# Altium integrated library Analog Devices Interface and Isolation Digital Isolators.IntLib: 645 symbols (part 33 of 36)
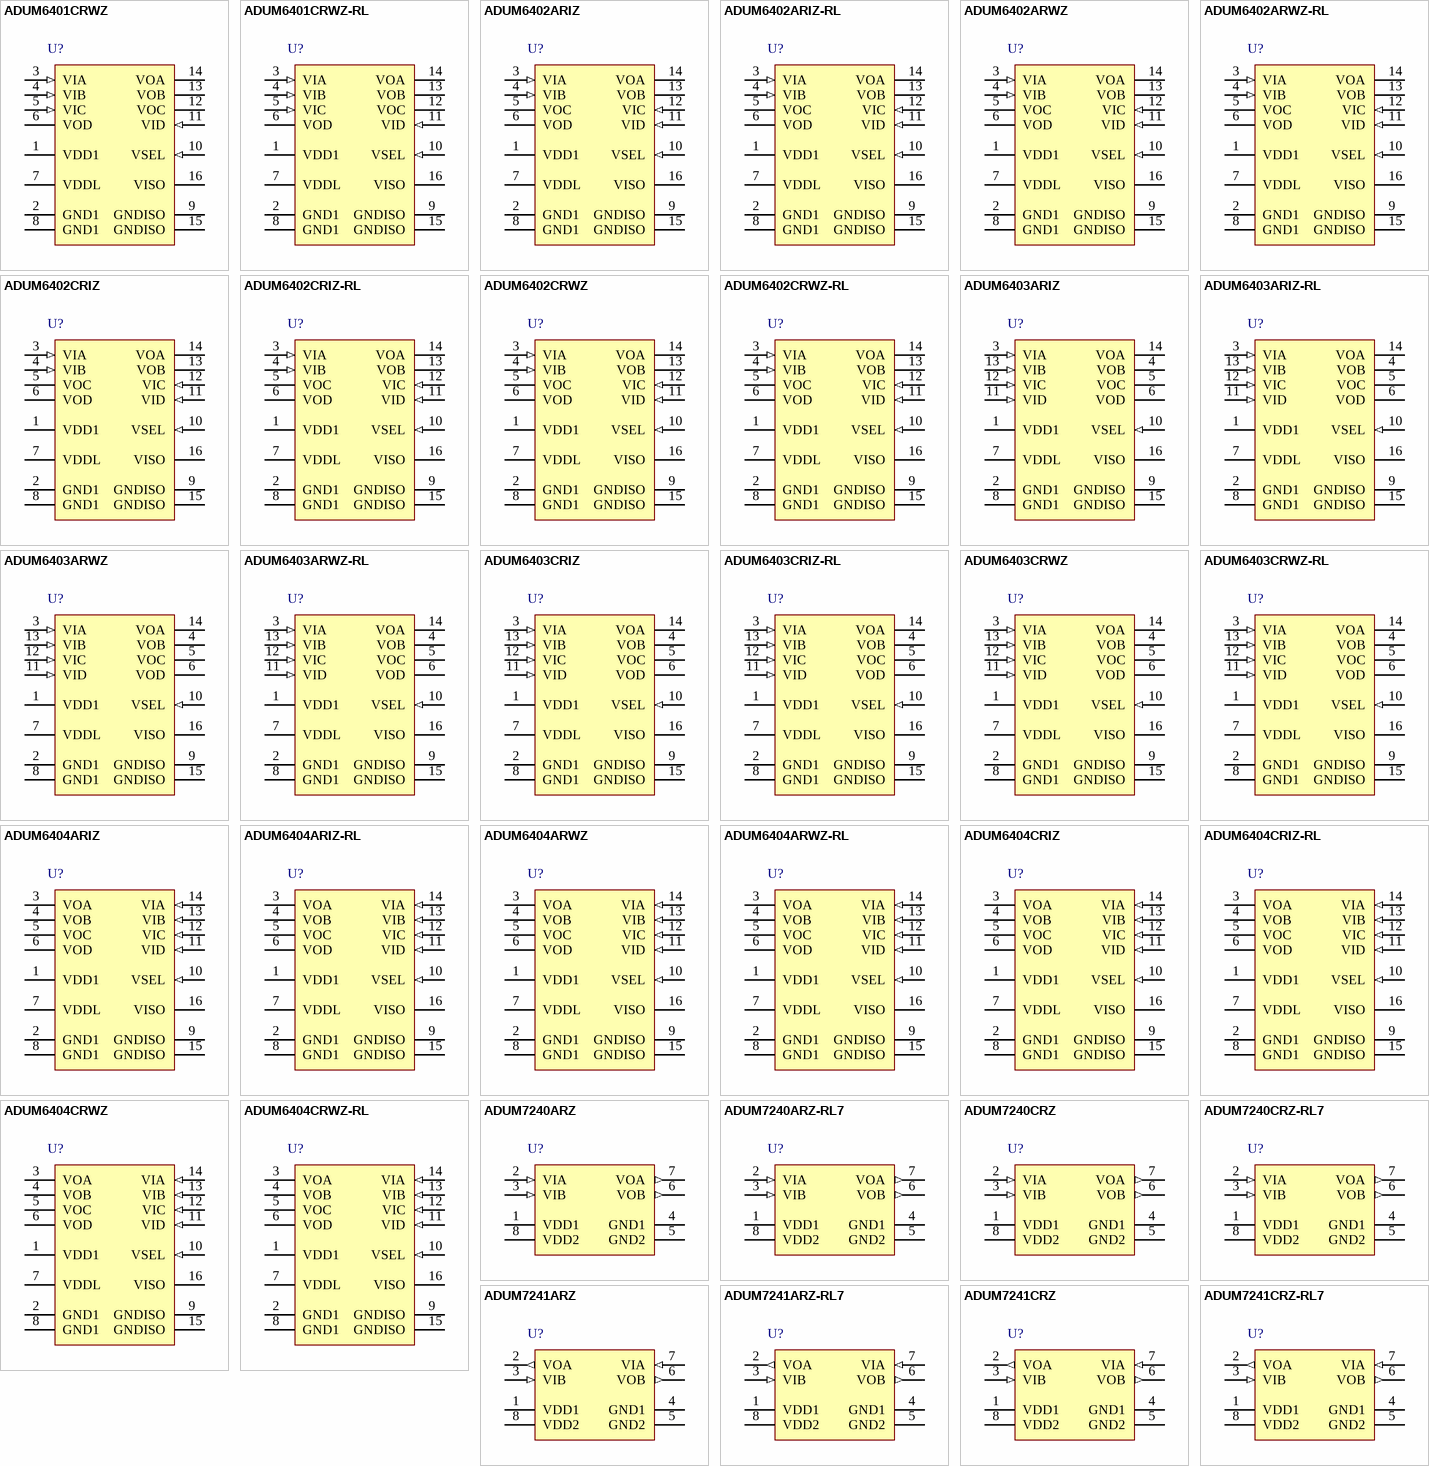
[diagram p52: symbols ADUM6401CRWZ to ADUM7241CRZ-RL7]

## ADUM6402CRWZ-RL
designator U?
Quad Channel Isolator with Integrated DC / DC Converter, 5 KV rms Insulation Rating, 25 Mbps Data Rate, 60 ns Delay, Industrial, 16-pin SOIC (RW-16), Reel; Manufacturer: Analog Devices; PartNumber: ADUM6402CRWZ-RL; Insulation Rating (kVrms): 5; Max Data Rate: 25Mbps; Prop Delay: 60ns; DatasheetVersion: Rev. A; PackageVersion: 032707-B, 03/2007; PackageReference: RW-16; PackageDescription: 16-Pin Standard Small Outline Package, Body 10.3 x 7.5 mm, Pitch 1.27 mm; Supplier 1: Digi-Key; Supplier Part Number 1: ADUM6402CRWZ-RL-ND; Max Operating Temp (degreesC): 105; Mounting Technology: Surface Mount; Code_JEDEC: MS-013-AA; ComponentLink1Description: Manufacturer URL; ComponentLink1URL: http://www.analog.com/en/index.html; ComponentLink2Description: Datasheet; ComponentLink2URL: http://www.analog.com/static/imported-files/data_sheets/ADuM6400_6401_6402_6403_6404.pdf; ComponentLink3Description: Package Specification; ComponentLink3URL: http://www.analog.com/static/imported-files/packages/PKG_PDF/SOIC_WIDE%20%28RW%29/RW_16.pdf
footprint ADI-RW-16_N (SOIC, 16-Leads, Body 10.3x7.5mm, Pitch 1.27mm, IPC Medium Density)
footprint ADI-RW-16_L (SOIC, 16-Leads, Body 10.3x7.5mm, Pitch 1.27mm, IPC High Density)
footprint ADI-RW-16_M (SOIC, 16-Leads, Body 10.3x7.5mm, Pitch 1.27mm, IPC Low Density)
pins: 1 VDD1 (power) "Primary Supply Voltage, 3.0 V to 5.5 V. Pin 1 and Pin 7 must be connected to the same external voltage source.", 2 GND1 (power) "Ground Reference for the Primary Side of the Isolator. Pin 2 and Pin 8 are internally connected to each other, and it is recommended that both pins be connected to a common ground.", 3 VIA (in) "Logic Input A.", 4 VIB (in) "Logic Input B.", 5 VOC (hiz) "Logic Output C.", 6 VOD (hiz) "Logic Output D.", 7 VDDL (power) "Data Channel Supply Voltage, 3.0 V to 5.5 V. Pin 1 and Pin 7 must be connected to the same external voltage source.", 8 GND1 (power) "Ground Reference for the Primary Side of the Isolator. Pin 2 and Pin 8 are internally connected to each other, and it is recommended that both pins be connected to a common ground.", 9 GNDISO (power) "Ground Reference for the Secondary Side of the Isolator. Pin 9 and Pin 15 are internally connected to each other, and it is recommended that both pins be connected to a common ground.", 10 VSEL (in) "Output Voltage Selection. When VSEL = VISO, the VISO setpoint is 5.0 V. When VSEL = GNDISO, the VISO setpoint is 3.3 V.", 11 VID (in) "Logic Input D.", 12 VIC (in) "Logic Input C.", 13 VOB (hiz) "Logic Output B.", 14 VOA (hiz) "Logic Output A.", 15 GNDISO (power) "Ground Reference for the Secondary Side of the Isolator. Pin 9 and Pin 15 are internally connected to each other, and it is recommended that both pins be connected to a common ground.", 16 VISO (power) "Secondary Supply Voltage Output for External Loads: 3.3 V (VSEL = GNDISO) or 5.0 V (VSEL = VISO)."

## ADUM6403ARIZ
designator U?
Quad Channel Isolator with Integrated DC / DC Converter, 5 KV rms Insulation Rating, 1 Mbps Data Rate, 100 ns Delay, Industrial, 16-pin SOIC (RI-16-1), Tube; Manufacturer: Analog Devices; PartNumber: ADUM6403ARIZ; Insulation Rating (kVrms): 5; Max Data Rate: 1Mbps; Prop Delay: 100ns; DatasheetVersion: Rev. A; PackageVersion: 10-12-2010-A, 02/2012; PackageReference: RI-16-1; PackageDescription: 16-Pin Standard Small Outline Package, with Increased Creepage, Body 12.8 x 7.5 mm, Pitch 1.27 mm; Supplier 1: Digi-Key; Supplier Part Number 1: ADUM6403ARIZ-ND; Max Operating Temp (degreesC): 105; Mounting Technology: Surface Mount; Code_JEDEC: MS-013-AC; ComponentLink1Description: Manufacturer URL; ComponentLink1URL: http://www.analog.com/en/index.html; ComponentLink2Description: Datasheet; ComponentLink2URL: http://www.analog.com/static/imported-files/data_sheets/ADuM6400_6401_6402_6403_6404.pdf; ComponentLink3Description: Package Specification; ComponentLink3URL: http://www.analog.com/static/imported-files/data_sheets/ADuM2400_2401_2402.pdf
footprint ADI-RI-16-1_N (SOIC, 16-Leads, Body 12.8x7.5mm, Pitch 1.27mm, IPC Medium Density)
footprint ADI-RI-16-1_L (SOIC, 16-Leads, Body 12.8x7.5mm, Pitch 1.27mm, IPC High Density)
footprint ADI-RI-16-1_M (SOIC, 16-Leads, Body 12.8x7.5mm, Pitch 1.27mm, IPC Low Density)
pins: 1 VDD1 (power) "Primary Supply Voltage, 3.0 V to 5.5 V. Pin 1 and Pin 7 must be connected to the same external voltage source.", 2 GND1 (power) "Ground Reference for the Primary Side of the Isolator. Pin 2 and Pin 8 are internally connected to each other, and it is recommed that both pins be connected to a common ground.", 3 VIA (in) "Logic Input A.", 4 VOB (hiz) "Logic Output B.", 5 VOC (hiz) "Logic Output C.", 6 VOD (hiz) "Logic Output D", 7 VDDL (power) "Data Channel Supply Voltage, 3.0 V to 5.5 V. Pin 1 and Pin 7 must be connected to the same external voltage source", 8 GND1 (power) "Ground Reference for the Primary Side of the Isolator. Pin 2 and Pin 8 are internally connected to each other, and it is recommed that both pins be connected to a common ground.", 9 GNDISO (power) "Ground Reference for the Secondary Side of the Isolator. Pin 9 and Pin 15 are internally connected to each other,  and it is recommended that both pins be connected to a common ground.", 10 VSEL (in) "Output Voltage Selection. When VSEL = VISO, the VISO setpoint is 5.0 V. When VSEL = GNDISO, the VISO setpoint is 3.3 V", 11 VID (in) "Logic Input D.", 12 VIC (in) "Logic Input C.", 13 VIB (in) "Logic Input B.", 14 VOA (hiz) "Logic Output A.", 15 GNDISO (power) "Ground Reference for the Secondary Side of the Isolator. Pin 9 and Pin 15 are internally connected to each other,  and it is recommended that both pins be connected to a common ground.", 16 VISO (power) "Secondary Supply Voltage Output for External Loads: 3.3 V (VSEL = GNDISO) or 5.0 V (VSEL = VISO)."

## ADUM6403ARIZ-RL
designator U?
Quad Channel Isolator with Integrated DC / DC Converter, 5 KV rms Insulation Rating, 1 Mbps Data Rate, 100 ns Delay, Industrial, 16-pin SOIC (RI-16-1), Reel; Manufacturer: Analog Devices; PartNumber: ADUM6403ARIZ-RL; Insulation Rating (kVrms): 5; Max Data Rate: 1Mbps; Prop Delay: 100ns; DatasheetVersion: Rev. A; PackageVersion: 10-12-2010-A, 02/2012; PackageReference: RI-16-1; PackageDescription: 16-Pin Standard Small Outline Package, with Increased Creepage, Body 12.8 x 7.5 mm, Pitch 1.27 mm; Supplier 1: Digi-Key; Supplier Part Number 1: ADUM6403ARIZ-RL-ND; Max Operating Temp (degreesC): 105; Mounting Technology: Surface Mount; Code_JEDEC: MS-013-AC; ComponentLink1Description: Manufacturer URL; ComponentLink1URL: http://www.analog.com/en/index.html; ComponentLink2Description: Datasheet; ComponentLink2URL: http://www.analog.com/static/imported-files/data_sheets/ADuM6400_6401_6402_6403_6404.pdf; ComponentLink3Description: Package Specification; ComponentLink3URL: http://www.analog.com/static/imported-files/data_sheets/ADuM2400_2401_2402.pdf
footprint ADI-RI-16-1_N (SOIC, 16-Leads, Body 12.8x7.5mm, Pitch 1.27mm, IPC Medium Density)
footprint ADI-RI-16-1_L (SOIC, 16-Leads, Body 12.8x7.5mm, Pitch 1.27mm, IPC High Density)
footprint ADI-RI-16-1_M (SOIC, 16-Leads, Body 12.8x7.5mm, Pitch 1.27mm, IPC Low Density)
pins: 1 VDD1 (power) "Primary Supply Voltage, 3.0 V to 5.5 V. Pin 1 and Pin 7 must be connected to the same external voltage source.", 2 GND1 (power) "Ground Reference for the Primary Side of the Isolator. Pin 2 and Pin 8 are internally connected to each other, and it is recommed that both pins be connected to a common ground.", 3 VIA (in) "Logic Input A.", 4 VOB (hiz) "Logic Output B.", 5 VOC (hiz) "Logic Output C.", 6 VOD (hiz) "Logic Output D", 7 VDDL (power) "Data Channel Supply Voltage, 3.0 V to 5.5 V. Pin 1 and Pin 7 must be connected to the same external voltage source", 8 GND1 (power) "Ground Reference for the Primary Side of the Isolator. Pin 2 and Pin 8 are internally connected to each other, and it is recommed that both pins be connected to a common ground.", 9 GNDISO (power) "Ground Reference for the Secondary Side of the Isolator. Pin 9 and Pin 15 are internally connected to each other,  and it is recommended that both pins be connected to a common ground.", 10 VSEL (in) "Output Voltage Selection. When VSEL = VISO, the VISO setpoint is 5.0 V. When VSEL = GNDISO, the VISO setpoint is 3.3 V", 11 VID (in) "Logic Input D.", 12 VIC (in) "Logic Input C.", 13 VIB (in) "Logic Input B.", 14 VOA (hiz) "Logic Output A.", 15 GNDISO (power) "Ground Reference for the Secondary Side of the Isolator. Pin 9 and Pin 15 are internally connected to each other,  and it is recommended that both pins be connected to a common ground.", 16 VISO (power) "Secondary Supply Voltage Output for External Loads: 3.3 V (VSEL = GNDISO) or 5.0 V (VSEL = VISO)."

## ADUM6403ARWZ
designator U?
Quad Channel Isolator with Integrated DC / DC Converter, 5 KV rms Insulation Rating, 1 Mbps Data Rate, 100 ns Delay, Industrial, 16-pin SOIC (RW-16), Tube; Manufacturer: Analog Devices; PartNumber: ADUM6403ARWZ; Insulation Rating (kVrms): 5; Max Data Rate: 1Mbps; Prop Delay: 100ns; DatasheetVersion: Rev. A; PackageVersion: 032707-B, 03/2007; PackageReference: RW-16; PackageDescription: 16-Pin Standard Small Outline Package, Body 10.3 x 7.5 mm, Pitch 1.27 mm; Supplier 1: Digi-Key; Supplier Part Number 1: ADUM6403ARWZ-ND; Max Operating Temp (degreesC): 105; Mounting Technology: Surface Mount; Code_JEDEC: MS-013-AA; ComponentLink1Description: Manufacturer URL; ComponentLink1URL: http://www.analog.com/en/index.html; ComponentLink2Description: Datasheet; ComponentLink2URL: http://www.analog.com/static/imported-files/data_sheets/ADuM6400_6401_6402_6403_6404.pdf; ComponentLink3Description: Package Specification; ComponentLink3URL: http://www.analog.com/static/imported-files/packages/PKG_PDF/SOIC_WIDE%20%28RW%29/RW_16.pdf
footprint ADI-RW-16_N (SOIC, 16-Leads, Body 10.3x7.5mm, Pitch 1.27mm, IPC Medium Density)
footprint ADI-RW-16_L (SOIC, 16-Leads, Body 10.3x7.5mm, Pitch 1.27mm, IPC High Density)
footprint ADI-RW-16_M (SOIC, 16-Leads, Body 10.3x7.5mm, Pitch 1.27mm, IPC Low Density)
pins: 1 VDD1 (power) "Primary Supply Voltage, 3.0 V to 5.5 V. Pin 1 and Pin 7 must be connected to the same external voltage source.", 2 GND1 (power) "Ground Reference for the Primary Side of the Isolator. Pin 2 and Pin 8 are internally connected to each other, and it is recommed that both pins be connected to a common ground.", 3 VIA (in) "Logic Input A.", 4 VOB (hiz) "Logic Output B.", 5 VOC (hiz) "Logic Output C.", 6 VOD (hiz) "Logic Output D", 7 VDDL (power) "Data Channel Supply Voltage, 3.0 V to 5.5 V. Pin 1 and Pin 7 must be connected to the same external voltage source", 8 GND1 (power) "Ground Reference for the Primary Side of the Isolator. Pin 2 and Pin 8 are internally connected to each other, and it is recommed that both pins be connected to a common ground.", 9 GNDISO (power) "Ground Reference for the Secondary Side of the Isolator. Pin 9 and Pin 15 are internally connected to each other,  and it is recommended that both pins be connected to a common ground.", 10 VSEL (in) "Output Voltage Selection. When VSEL = VISO, the VISO setpoint is 5.0 V. When VSEL = GNDISO, the VISO setpoint is 3.3 V", 11 VID (in) "Logic Input D.", 12 VIC (in) "Logic Input C.", 13 VIB (in) "Logic Input B.", 14 VOA (hiz) "Logic Output A.", 15 GNDISO (power) "Ground Reference for the Secondary Side of the Isolator. Pin 9 and Pin 15 are internally connected to each other,  and it is recommended that both pins be connected to a common ground.", 16 VISO (power) "Secondary Supply Voltage Output for External Loads: 3.3 V (VSEL = GNDISO) or 5.0 V (VSEL = VISO)."

## ADUM6403ARWZ-RL
designator U?
Quad Channel Isolator with Integrated DC / DC Converter, 5 KV rms Insulation Rating, 1 Mbps Data Rate, 100 ns Delay, Industrial, 16-pin SOIC (RW-16), Reel; Manufacturer: Analog Devices; PartNumber: ADUM6403ARWZ-RL; Insulation Rating (kVrms): 5; Max Data Rate: 1Mbps; Prop Delay: 100ns; DatasheetVersion: Rev. A; PackageVersion: 032707-B, 03/2007; PackageReference: RW-16; PackageDescription: 16-Pin Standard Small Outline Package, Body 10.3 x 7.5 mm, Pitch 1.27 mm; Supplier 1: Digi-Key; Supplier Part Number 1: ADUM6403ARWZ-RLTR-ND; Max Operating Temp (degreesC): 105; Mounting Technology: Surface Mount; Code_JEDEC: MS-013-AA; ComponentLink1Description: Manufacturer URL; ComponentLink1URL: http://www.analog.com/en/index.html; ComponentLink2Description: Datasheet; ComponentLink2URL: http://www.analog.com/static/imported-files/data_sheets/ADuM6400_6401_6402_6403_6404.pdf; ComponentLink3Description: Package Specification; ComponentLink3URL: http://www.analog.com/static/imported-files/packages/PKG_PDF/SOIC_WIDE%20%28RW%29/RW_16.pdf
footprint ADI-RW-16_N (SOIC, 16-Leads, Body 10.3x7.5mm, Pitch 1.27mm, IPC Medium Density)
footprint ADI-RW-16_L (SOIC, 16-Leads, Body 10.3x7.5mm, Pitch 1.27mm, IPC High Density)
footprint ADI-RW-16_M (SOIC, 16-Leads, Body 10.3x7.5mm, Pitch 1.27mm, IPC Low Density)
pins: 1 VDD1 (power) "Primary Supply Voltage, 3.0 V to 5.5 V. Pin 1 and Pin 7 must be connected to the same external voltage source.", 2 GND1 (power) "Ground Reference for the Primary Side of the Isolator. Pin 2 and Pin 8 are internally connected to each other, and it is recommed that both pins be connected to a common ground.", 3 VIA (in) "Logic Input A.", 4 VOB (hiz) "Logic Output B.", 5 VOC (hiz) "Logic Output C.", 6 VOD (hiz) "Logic Output D", 7 VDDL (power) "Data Channel Supply Voltage, 3.0 V to 5.5 V. Pin 1 and Pin 7 must be connected to the same external voltage source", 8 GND1 (power) "Ground Reference for the Primary Side of the Isolator. Pin 2 and Pin 8 are internally connected to each other, and it is recommed that both pins be connected to a common ground.", 9 GNDISO (power) "Ground Reference for the Secondary Side of the Isolator. Pin 9 and Pin 15 are internally connected to each other,  and it is recommended that both pins be connected to a common ground.", 10 VSEL (in) "Output Voltage Selection. When VSEL = VISO, the VISO setpoint is 5.0 V. When VSEL = GNDISO, the VISO setpoint is 3.3 V", 11 VID (in) "Logic Input D.", 12 VIC (in) "Logic Input C.", 13 VIB (in) "Logic Input B.", 14 VOA (hiz) "Logic Output A.", 15 GNDISO (power) "Ground Reference for the Secondary Side of the Isolator. Pin 9 and Pin 15 are internally connected to each other,  and it is recommended that both pins be connected to a common ground.", 16 VISO (power) "Secondary Supply Voltage Output for External Loads: 3.3 V (VSEL = GNDISO) or 5.0 V (VSEL = VISO)."

## ADUM6403CRIZ
designator U?
Quad Channel Isolator with Integrated DC / DC Converter, 5 KV rms Insulation Rating, 25 Mbps Data Rate, 60 ns Delay, Industrial, 16-pin SOIC (RI-16-1), Tube; Manufacturer: Analog Devices; PartNumber: ADUM6403CRIZ; Insulation Rating (kVrms): 5; Max Data Rate: 25Mbps; Prop Delay: 60ns; DatasheetVersion: Rev. A; PackageVersion: 10-12-2010-A, 02/2012; PackageReference: RI-16-1; PackageDescription: 16-Pin Standard Small Outline Package, with Increased Creepage, Body 12.8 x 7.5 mm, Pitch 1.27 mm; Supplier 1: Digi-Key; Supplier Part Number 1: ADUM6403CRIZ-ND; Max Operating Temp (degreesC): 105; Mounting Technology: Surface Mount; Code_JEDEC: MS-013-AC; ComponentLink1Description: Manufacturer URL; ComponentLink1URL: http://www.analog.com/en/index.html; ComponentLink2Description: Datasheet; ComponentLink2URL: http://www.analog.com/static/imported-files/data_sheets/ADuM6400_6401_6402_6403_6404.pdf; ComponentLink3Description: Package Specification; ComponentLink3URL: http://www.analog.com/static/imported-files/data_sheets/ADuM2400_2401_2402.pdf
footprint ADI-RI-16-1_N (SOIC, 16-Leads, Body 12.8x7.5mm, Pitch 1.27mm, IPC Medium Density)
footprint ADI-RI-16-1_L (SOIC, 16-Leads, Body 12.8x7.5mm, Pitch 1.27mm, IPC High Density)
footprint ADI-RI-16-1_M (SOIC, 16-Leads, Body 12.8x7.5mm, Pitch 1.27mm, IPC Low Density)
pins: 1 VDD1 (power) "Primary Supply Voltage, 3.0 V to 5.5 V. Pin 1 and Pin 7 must be connected to the same external voltage source.", 2 GND1 (power) "Ground Reference for the Primary Side of the Isolator. Pin 2 and Pin 8 are internally connected to each other, and it is recommed that both pins be connected to a common ground.", 3 VIA (in) "Logic Input A.", 4 VOB (hiz) "Logic Output B.", 5 VOC (hiz) "Logic Output C.", 6 VOD (hiz) "Logic Output D", 7 VDDL (power) "Data Channel Supply Voltage, 3.0 V to 5.5 V. Pin 1 and Pin 7 must be connected to the same external voltage source", 8 GND1 (power) "Ground Reference for the Primary Side of the Isolator. Pin 2 and Pin 8 are internally connected to each other, and it is recommed that both pins be connected to a common ground.", 9 GNDISO (power) "Ground Reference for the Secondary Side of the Isolator. Pin 9 and Pin 15 are internally connected to each other,  and it is recommended that both pins be connected to a common ground.", 10 VSEL (in) "Output Voltage Selection. When VSEL = VISO, the VISO setpoint is 5.0 V. When VSEL = GNDISO, the VISO setpoint is 3.3 V", 11 VID (in) "Logic Input D.", 12 VIC (in) "Logic Input C.", 13 VIB (in) "Logic Input B.", 14 VOA (hiz) "Logic Output A.", 15 GNDISO (power) "Ground Reference for the Secondary Side of the Isolator. Pin 9 and Pin 15 are internally connected to each other,  and it is recommended that both pins be connected to a common ground.", 16 VISO (power) "Secondary Supply Voltage Output for External Loads: 3.3 V (VSEL = GNDISO) or 5.0 V (VSEL = VISO)."

## ADUM6403CRIZ-RL
designator U?
Quad Channel Isolator with Integrated DC / DC Converter, 5 KV rms Insulation Rating, 25 Mbps Data Rate, 60 ns Delay, Industrial, 16-pin SOIC (RI-16-1), Reel; Manufacturer: Analog Devices; PartNumber: ADUM6403CRIZ-RL; Insulation Rating (kVrms): 5; Max Data Rate: 25Mbps; Prop Delay: 60ns; DatasheetVersion: Rev. A; PackageVersion: 10-12-2010-A, 02/2012; PackageReference: RI-16-1; PackageDescription: 16-Pin Standard Small Outline Package, with Increased Creepage, Body 12.8 x 7.5 mm, Pitch 1.27 mm; Supplier 1: Digi-Key; Supplier Part Number 1: ADUM6403CRIZ-RL-ND; Max Operating Temp (degreesC): 105; Mounting Technology: Surface Mount; Code_JEDEC: MS-013-AC; ComponentLink1Description: Manufacturer URL; ComponentLink1URL: http://www.analog.com/en/index.html; ComponentLink2Description: Datasheet; ComponentLink2URL: http://www.analog.com/static/imported-files/data_sheets/ADuM6400_6401_6402_6403_6404.pdf; ComponentLink3Description: Package Specification; ComponentLink3URL: http://www.analog.com/static/imported-files/data_sheets/ADuM2400_2401_2402.pdf
footprint ADI-RI-16-1_N (SOIC, 16-Leads, Body 12.8x7.5mm, Pitch 1.27mm, IPC Medium Density)
footprint ADI-RI-16-1_L (SOIC, 16-Leads, Body 12.8x7.5mm, Pitch 1.27mm, IPC High Density)
footprint ADI-RI-16-1_M (SOIC, 16-Leads, Body 12.8x7.5mm, Pitch 1.27mm, IPC Low Density)
pins: 1 VDD1 (power) "Primary Supply Voltage, 3.0 V to 5.5 V. Pin 1 and Pin 7 must be connected to the same external voltage source.", 2 GND1 (power) "Ground Reference for the Primary Side of the Isolator. Pin 2 and Pin 8 are internally connected to each other, and it is recommed that both pins be connected to a common ground.", 3 VIA (in) "Logic Input A.", 4 VOB (hiz) "Logic Output B.", 5 VOC (hiz) "Logic Output C.", 6 VOD (hiz) "Logic Output D", 7 VDDL (power) "Data Channel Supply Voltage, 3.0 V to 5.5 V. Pin 1 and Pin 7 must be connected to the same external voltage source", 8 GND1 (power) "Ground Reference for the Primary Side of the Isolator. Pin 2 and Pin 8 are internally connected to each other, and it is recommed that both pins be connected to a common ground.", 9 GNDISO (power) "Ground Reference for the Secondary Side of the Isolator. Pin 9 and Pin 15 are internally connected to each other,  and it is recommended that both pins be connected to a common ground.", 10 VSEL (in) "Output Voltage Selection. When VSEL = VISO, the VISO setpoint is 5.0 V. When VSEL = GNDISO, the VISO setpoint is 3.3 V", 11 VID (in) "Logic Input D.", 12 VIC (in) "Logic Input C.", 13 VIB (in) "Logic Input B.", 14 VOA (hiz) "Logic Output A.", 15 GNDISO (power) "Ground Reference for the Secondary Side of the Isolator. Pin 9 and Pin 15 are internally connected to each other,  and it is recommended that both pins be connected to a common ground.", 16 VISO (power) "Secondary Supply Voltage Output for External Loads: 3.3 V (VSEL = GNDISO) or 5.0 V (VSEL = VISO)."

## ADUM6403CRWZ
designator U?
Quad Channel Isolator with Integrated DC / DC Converter, 5 KV rms Insulation Rating, 25 Mbps Data Rate, 60 ns Delay, Industrial, 16-pin SOIC (RW-16), Tube; Manufacturer: Analog Devices; PartNumber: ADUM6403CRWZ; Insulation Rating (kVrms): 5; Max Data Rate: 25Mbps; Prop Delay: 60ns; DatasheetVersion: Rev. A; PackageVersion: 032707-B, 03/2007; PackageReference: RW-16; PackageDescription: 16-Pin Standard Small Outline Package, Body 10.3 x 7.5 mm, Pitch 1.27 mm; Supplier 1: Digi-Key; Supplier Part Number 1: ADUM6403CRWZ-ND; Max Operating Temp (degreesC): 105; Mounting Technology: Surface Mount; Code_JEDEC: MS-013-AA; ComponentLink1Description: Manufacturer URL; ComponentLink1URL: http://www.analog.com/en/index.html; ComponentLink2Description: Datasheet; ComponentLink2URL: http://www.analog.com/static/imported-files/data_sheets/ADuM6400_6401_6402_6403_6404.pdf; ComponentLink3Description: Package Specification; ComponentLink3URL: http://www.analog.com/static/imported-files/packages/PKG_PDF/SOIC_WIDE%20%28RW%29/RW_16.pdf
footprint ADI-RW-16_N (SOIC, 16-Leads, Body 10.3x7.5mm, Pitch 1.27mm, IPC Medium Density)
footprint ADI-RW-16_L (SOIC, 16-Leads, Body 10.3x7.5mm, Pitch 1.27mm, IPC High Density)
footprint ADI-RW-16_M (SOIC, 16-Leads, Body 10.3x7.5mm, Pitch 1.27mm, IPC Low Density)
pins: 1 VDD1 (power) "Primary Supply Voltage, 3.0 V to 5.5 V. Pin 1 and Pin 7 must be connected to the same external voltage source.", 2 GND1 (power) "Ground Reference for the Primary Side of the Isolator. Pin 2 and Pin 8 are internally connected to each other, and it is recommed that both pins be connected to a common ground.", 3 VIA (in) "Logic Input A.", 4 VOB (hiz) "Logic Output B.", 5 VOC (hiz) "Logic Output C.", 6 VOD (hiz) "Logic Output D", 7 VDDL (power) "Data Channel Supply Voltage, 3.0 V to 5.5 V. Pin 1 and Pin 7 must be connected to the same external voltage source", 8 GND1 (power) "Ground Reference for the Primary Side of the Isolator. Pin 2 and Pin 8 are internally connected to each other, and it is recommed that both pins be connected to a common ground.", 9 GNDISO (power) "Ground Reference for the Secondary Side of the Isolator. Pin 9 and Pin 15 are internally connected to each other,  and it is recommended that both pins be connected to a common ground.", 10 VSEL (in) "Output Voltage Selection. When VSEL = VISO, the VISO setpoint is 5.0 V. When VSEL = GNDISO, the VISO setpoint is 3.3 V", 11 VID (in) "Logic Input D.", 12 VIC (in) "Logic Input C.", 13 VIB (in) "Logic Input B.", 14 VOA (hiz) "Logic Output A.", 15 GNDISO (power) "Ground Reference for the Secondary Side of the Isolator. Pin 9 and Pin 15 are internally connected to each other,  and it is recommended that both pins be connected to a common ground.", 16 VISO (power) "Secondary Supply Voltage Output for External Loads: 3.3 V (VSEL = GNDISO) or 5.0 V (VSEL = VISO)."

## ADUM6403CRWZ-RL
designator U?
Quad Channel Isolator with Integrated DC / DC Converter, 5 KV rms Insulation Rating, 25 Mbps Data Rate, 60 ns Delay, Industrial, 16-pin SOIC (RW-16), Reel; Manufacturer: Analog Devices; PartNumber: ADUM6403CRWZ-RL; Insulation Rating (kVrms): 5; Max Data Rate: 25Mbps; Prop Delay: 60ns; DatasheetVersion: Rev. A; PackageVersion: 032707-B, 03/2007; PackageReference: RW-16; PackageDescription: 16-Pin Standard Small Outline Package, Body 10.3 x 7.5 mm, Pitch 1.27 mm; Supplier 1: Digi-Key; Supplier Part Number 1: ADUM6403CRWZ-RL-ND; Max Operating Temp (degreesC): 105; Mounting Technology: Surface Mount; Code_JEDEC: MS-013-AA; ComponentLink1Description: Manufacturer URL; ComponentLink1URL: http://www.analog.com/en/index.html; ComponentLink2Description: Datasheet; ComponentLink2URL: http://www.analog.com/static/imported-files/data_sheets/ADuM6400_6401_6402_6403_6404.pdf; ComponentLink3Description: Package Specification; ComponentLink3URL: http://www.analog.com/static/imported-files/packages/PKG_PDF/SOIC_WIDE%20%28RW%29/RW_16.pdf
footprint ADI-RW-16_N (SOIC, 16-Leads, Body 10.3x7.5mm, Pitch 1.27mm, IPC Medium Density)
footprint ADI-RW-16_L (SOIC, 16-Leads, Body 10.3x7.5mm, Pitch 1.27mm, IPC High Density)
footprint ADI-RW-16_M (SOIC, 16-Leads, Body 10.3x7.5mm, Pitch 1.27mm, IPC Low Density)
pins: 1 VDD1 (power) "Primary Supply Voltage, 3.0 V to 5.5 V. Pin 1 and Pin 7 must be connected to the same external voltage source.", 2 GND1 (power) "Ground Reference for the Primary Side of the Isolator. Pin 2 and Pin 8 are internally connected to each other, and it is recommed that both pins be connected to a common ground.", 3 VIA (in) "Logic Input A.", 4 VOB (hiz) "Logic Output B.", 5 VOC (hiz) "Logic Output C.", 6 VOD (hiz) "Logic Output D", 7 VDDL (power) "Data Channel Supply Voltage, 3.0 V to 5.5 V. Pin 1 and Pin 7 must be connected to the same external voltage source", 8 GND1 (power) "Ground Reference for the Primary Side of the Isolator. Pin 2 and Pin 8 are internally connected to each other, and it is recommed that both pins be connected to a common ground.", 9 GNDISO (power) "Ground Reference for the Secondary Side of the Isolator. Pin 9 and Pin 15 are internally connected to each other,  and it is recommended that both pins be connected to a common ground.", 10 VSEL (in) "Output Voltage Selection. When VSEL = VISO, the VISO setpoint is 5.0 V. When VSEL = GNDISO, the VISO setpoint is 3.3 V", 11 VID (in) "Logic Input D.", 12 VIC (in) "Logic Input C.", 13 VIB (in) "Logic Input B.", 14 VOA (hiz) "Logic Output A.", 15 GNDISO (power) "Ground Reference for the Secondary Side of the Isolator. Pin 9 and Pin 15 are internally connected to each other,  and it is recommended that both pins be connected to a common ground.", 16 VISO (power) "Secondary Supply Voltage Output for External Loads: 3.3 V (VSEL = GNDISO) or 5.0 V (VSEL = VISO)."

## ADUM6404ARIZ
designator U?
Quad Channel Isolator with Integrated DC / DC Converter, 5 KV rms Insulation Rating, 1 Mbps Data Rate, 100 ns Delay, Industrial, 16-pin SOIC (RI-16-1), Tube; Manufacturer: Analog Devices; PartNumber: ADUM6404ARIZ; Insulation Rating (kVrms): 5; Max Data Rate: 1Mbps; Prop Delay: 100ns; DatasheetVersion: Rev. A; PackageVersion: 10-12-2010-A, 02/2012; PackageReference: RI-16-1; PackageDescription: 16-Pin Standard Small Outline Package, with Increased Creepage, Body 12.8 x 7.5 mm, Pitch 1.27 mm; Supplier 1: Digi-Key; Supplier Part Number 1: ADUM6404ARIZ-ND; Max Operating Temp (degreesC): 105; Mounting Technology: Surface Mount; Code_JEDEC: MS-013-AC; ComponentLink1Description: Manufacturer URL; ComponentLink1URL: http://www.analog.com/en/index.html; ComponentLink2Description: Datasheet; ComponentLink2URL: http://www.analog.com/static/imported-files/data_sheets/ADuM6400_6401_6402_6403_6404.pdf; ComponentLink3Description: Package Specification; ComponentLink3URL: http://www.analog.com/static/imported-files/data_sheets/ADuM2400_2401_2402.pdf
footprint ADI-RI-16-1_N (SOIC, 16-Leads, Body 12.8x7.5mm, Pitch 1.27mm, IPC Medium Density)
footprint ADI-RI-16-1_L (SOIC, 16-Leads, Body 12.8x7.5mm, Pitch 1.27mm, IPC High Density)
footprint ADI-RI-16-1_M (SOIC, 16-Leads, Body 12.8x7.5mm, Pitch 1.27mm, IPC Low Density)
pins: 1 VDD1 (power) "Primary Supply Voltage, 3.0 V to 5.5 V. Pin 1 and Pin 7 must be connected to the same external voltage source.", 2 GND1 (power) "Ground Reference for the Primary Side of the Isolator. Pin 2 and Pin 8 are internally connected to each other, and it is recommended that both pins be connected to a common ground.", 3 VOA (hiz) "Logic Output A.", 4 VOB (hiz) "Logic Output B.", 5 VOC (hiz) "Logic Output C.", 6 VOD (hiz) "Logic Output D.", 7 VDDL (power) "Data Channel Supply Voltage, 3.0 V to 5.5 V. Pin 1 and Pin 7 must be connected to the same external voltage source.", 8 GND1 (power) "Ground Reference for the Primary Side of the Isolator. Pin 2 and Pin 8 are internally connected to each other, and it is recommended that both pins be connected to a common ground.", 9 GNDISO (power) "Ground Reference for the Secondary Side of the Isolator. Pin 9 and Pin 15 are internally connected to each other, and it is recommended that both pins be connected to a common ground.", 10 VSEL (in) "Output Voltage Selection. When VSEL = VISO, the VISO setpoint is 5.0 V. When VSEL = GNDISO, the VISO setpoint is 3.3 V.", 11 VID (in) "Logic Input D.", 12 VIC (in) "Logic Input C.", 13 VIB (in) "Logic Input B.", 14 VIA (in) "Logic Input A.", 15 GNDISO (power) "Ground Reference for the Secondary Side of the Isolator. Pin 9 and Pin 15 are internally connected to each other, and it is recommended that both pins be connected to a common ground.", 16 VISO (power) "Secondary Supply Voltage Output for External Loads: 3.3 V (VSEL = GNDISO) or 5.0 V (VSEL = VISO)."

## ADUM6404ARIZ-RL
designator U?
Quad Channel Isolator with Integrated DC / DC Converter, 5 KV rms Insulation Rating, 1 Mbps Data Rate, 100 ns Delay, Industrial, 16-pin SOIC (RI-16-1), Reel; Manufacturer: Analog Devices; PartNumber: ADUM6404ARIZ-RL; Insulation Rating (kVrms): 5; Max Data Rate: 1Mbps; Prop Delay: 100ns; DatasheetVersion: Rev. A; PackageVersion: 10-12-2010-A, 02/2012; PackageReference: RI-16-1; PackageDescription: 16-Pin Standard Small Outline Package, with Increased Creepage, Body 12.8 x 7.5 mm, Pitch 1.27 mm; Supplier 1: Digi-Key; Supplier Part Number 1: ADUM6404ARIZ-RL-ND; Max Operating Temp (degreesC): 105; Mounting Technology: Surface Mount; Code_JEDEC: MS-013-AC; ComponentLink1Description: Manufacturer URL; ComponentLink1URL: http://www.analog.com/en/index.html; ComponentLink2Description: Datasheet; ComponentLink2URL: http://www.analog.com/static/imported-files/data_sheets/ADuM6400_6401_6402_6403_6404.pdf; ComponentLink3Description: Package Specification; ComponentLink3URL: http://www.analog.com/static/imported-files/data_sheets/ADuM2400_2401_2402.pdf
footprint ADI-RI-16-1_N (SOIC, 16-Leads, Body 12.8x7.5mm, Pitch 1.27mm, IPC Medium Density)
footprint ADI-RI-16-1_L (SOIC, 16-Leads, Body 12.8x7.5mm, Pitch 1.27mm, IPC High Density)
footprint ADI-RI-16-1_M (SOIC, 16-Leads, Body 12.8x7.5mm, Pitch 1.27mm, IPC Low Density)
pins: 1 VDD1 (power) "Primary Supply Voltage, 3.0 V to 5.5 V. Pin 1 and Pin 7 must be connected to the same external voltage source.", 2 GND1 (power) "Ground Reference for the Primary Side of the Isolator. Pin 2 and Pin 8 are internally connected to each other, and it is recommended that both pins be connected to a common ground.", 3 VOA (hiz) "Logic Output A.", 4 VOB (hiz) "Logic Output B.", 5 VOC (hiz) "Logic Output C.", 6 VOD (hiz) "Logic Output D.", 7 VDDL (power) "Data Channel Supply Voltage, 3.0 V to 5.5 V. Pin 1 and Pin 7 must be connected to the same external voltage source.", 8 GND1 (power) "Ground Reference for the Primary Side of the Isolator. Pin 2 and Pin 8 are internally connected to each other, and it is recommended that both pins be connected to a common ground.", 9 GNDISO (power) "Ground Reference for the Secondary Side of the Isolator. Pin 9 and Pin 15 are internally connected to each other, and it is recommended that both pins be connected to a common ground.", 10 VSEL (in) "Output Voltage Selection. When VSEL = VISO, the VISO setpoint is 5.0 V. When VSEL = GNDISO, the VISO setpoint is 3.3 V.", 11 VID (in) "Logic Input D.", 12 VIC (in) "Logic Input C.", 13 VIB (in) "Logic Input B.", 14 VIA (in) "Logic Input A.", 15 GNDISO (power) "Ground Reference for the Secondary Side of the Isolator. Pin 9 and Pin 15 are internally connected to each other, and it is recommended that both pins be connected to a common ground.", 16 VISO (power) "Secondary Supply Voltage Output for External Loads: 3.3 V (VSEL = GNDISO) or 5.0 V (VSEL = VISO)."

## ADUM6404ARWZ
designator U?
Quad Channel Isolator with Integrated DC / DC Converter, 5 KV rms Insulation Rating, 1 Mbps Data Rate, 100 ns Delay, Industrial, 16-pin SOIC (RW-16), Tube; Manufacturer: Analog Devices; PartNumber: ADUM6404ARWZ; Insulation Rating (kVrms): 5; Max Data Rate: 1Mbps; Prop Delay: 100ns; DatasheetVersion: Rev. A; PackageVersion: 032707-B, 03/2007; PackageReference: RW-16; PackageDescription: 16-Pin Standard Small Outline Package, Body 10.3 x 7.5 mm, Pitch 1.27 mm; Supplier 1: Digi-Key; Supplier Part Number 1: ADUM6404ARWZ-ND; Max Operating Temp (degreesC): 105; Mounting Technology: Surface Mount; Code_JEDEC: MS-013-AA; ComponentLink1Description: Manufacturer URL; ComponentLink1URL: http://www.analog.com/en/index.html; ComponentLink2Description: Datasheet; ComponentLink2URL: http://www.analog.com/static/imported-files/data_sheets/ADuM6400_6401_6402_6403_6404.pdf; ComponentLink3Description: Package Specification; ComponentLink3URL: http://www.analog.com/static/imported-files/packages/PKG_PDF/SOIC_WIDE%20%28RW%29/RW_16.pdf
footprint ADI-RW-16_N (SOIC, 16-Leads, Body 10.3x7.5mm, Pitch 1.27mm, IPC Medium Density)
footprint ADI-RW-16_L (SOIC, 16-Leads, Body 10.3x7.5mm, Pitch 1.27mm, IPC High Density)
footprint ADI-RW-16_M (SOIC, 16-Leads, Body 10.3x7.5mm, Pitch 1.27mm, IPC Low Density)
pins: 1 VDD1 (power) "Primary Supply Voltage, 3.0 V to 5.5 V. Pin 1 and Pin 7 must be connected to the same external voltage source.", 2 GND1 (power) "Ground Reference for the Primary Side of the Isolator. Pin 2 and Pin 8 are internally connected to each other, and it is recommended that both pins be connected to a common ground.", 3 VOA (hiz) "Logic Output A.", 4 VOB (hiz) "Logic Output B.", 5 VOC (hiz) "Logic Output C.", 6 VOD (hiz) "Logic Output D.", 7 VDDL (power) "Data Channel Supply Voltage, 3.0 V to 5.5 V. Pin 1 and Pin 7 must be connected to the same external voltage source.", 8 GND1 (power) "Ground Reference for the Primary Side of the Isolator. Pin 2 and Pin 8 are internally connected to each other, and it is recommended that both pins be connected to a common ground.", 9 GNDISO (power) "Ground Reference for the Secondary Side of the Isolator. Pin 9 and Pin 15 are internally connected to each other, and it is recommended that both pins be connected to a common ground.", 10 VSEL (in) "Output Voltage Selection. When VSEL = VISO, the VISO setpoint is 5.0 V. When VSEL = GNDISO, the VISO setpoint is 3.3 V.", 11 VID (in) "Logic Input D.", 12 VIC (in) "Logic Input C.", 13 VIB (in) "Logic Input B.", 14 VIA (in) "Logic Input A.", 15 GNDISO (power) "Ground Reference for the Secondary Side of the Isolator. Pin 9 and Pin 15 are internally connected to each other, and it is recommended that both pins be connected to a common ground.", 16 VISO (power) "Secondary Supply Voltage Output for External Loads: 3.3 V (VSEL = GNDISO) or 5.0 V (VSEL = VISO)."

## ADUM6404ARWZ-RL
designator U?
Quad Channel Isolator with Integrated DC / DC Converter, 5 KV rms Insulation Rating, 1 Mbps Data Rate, 100 ns Delay, Industrial, 16-pin SOIC (RW-16), Reel; Manufacturer: Analog Devices; PartNumber: ADUM6404ARWZ-RL; Insulation Rating (kVrms): 5; Max Data Rate: 1Mbps; Prop Delay: 100ns; DatasheetVersion: Rev. A; PackageVersion: 032707-B, 03/2007; PackageReference: RW-16; PackageDescription: 16-Pin Standard Small Outline Package, Body 10.3 x 7.5 mm, Pitch 1.27 mm; Supplier 1: Digi-Key; Supplier Part Number 1: ADUM6404ARWZ-RLTR-ND; Max Operating Temp (degreesC): 105; Mounting Technology: Surface Mount; Code_JEDEC: MS-013-AA; ComponentLink1Description: Manufacturer URL; ComponentLink1URL: http://www.analog.com/en/index.html; ComponentLink2Description: Datasheet; ComponentLink2URL: http://www.analog.com/static/imported-files/data_sheets/ADuM6400_6401_6402_6403_6404.pdf; ComponentLink3Description: Package Specification; ComponentLink3URL: http://www.analog.com/static/imported-files/packages/PKG_PDF/SOIC_WIDE%20%28RW%29/RW_16.pdf
footprint ADI-RW-16_N (SOIC, 16-Leads, Body 10.3x7.5mm, Pitch 1.27mm, IPC Medium Density)
footprint ADI-RW-16_L (SOIC, 16-Leads, Body 10.3x7.5mm, Pitch 1.27mm, IPC High Density)
footprint ADI-RW-16_M (SOIC, 16-Leads, Body 10.3x7.5mm, Pitch 1.27mm, IPC Low Density)
pins: 1 VDD1 (power) "Primary Supply Voltage, 3.0 V to 5.5 V. Pin 1 and Pin 7 must be connected to the same external voltage source.", 2 GND1 (power) "Ground Reference for the Primary Side of the Isolator. Pin 2 and Pin 8 are internally connected to each other, and it is recommended that both pins be connected to a common ground.", 3 VOA (hiz) "Logic Output A.", 4 VOB (hiz) "Logic Output B.", 5 VOC (hiz) "Logic Output C.", 6 VOD (hiz) "Logic Output D.", 7 VDDL (power) "Data Channel Supply Voltage, 3.0 V to 5.5 V. Pin 1 and Pin 7 must be connected to the same external voltage source.", 8 GND1 (power) "Ground Reference for the Primary Side of the Isolator. Pin 2 and Pin 8 are internally connected to each other, and it is recommended that both pins be connected to a common ground.", 9 GNDISO (power) "Ground Reference for the Secondary Side of the Isolator. Pin 9 and Pin 15 are internally connected to each other, and it is recommended that both pins be connected to a common ground.", 10 VSEL (in) "Output Voltage Selection. When VSEL = VISO, the VISO setpoint is 5.0 V. When VSEL = GNDISO, the VISO setpoint is 3.3 V.", 11 VID (in) "Logic Input D.", 12 VIC (in) "Logic Input C.", 13 VIB (in) "Logic Input B.", 14 VIA (in) "Logic Input A.", 15 GNDISO (power) "Ground Reference for the Secondary Side of the Isolator. Pin 9 and Pin 15 are internally connected to each other, and it is recommended that both pins be connected to a common ground.", 16 VISO (power) "Secondary Supply Voltage Output for External Loads: 3.3 V (VSEL = GNDISO) or 5.0 V (VSEL = VISO)."

## ADUM6404CRIZ
designator U?
Quad Channel Isolator with Integrated DC / DC Converter, 5 KV rms Insulation Rating, 25 Mbps Data Rate, 60 ns Delay, Industrial, 16-pin SOIC (RI-16-1), Tube; Manufacturer: Analog Devices; PartNumber: ADUM6404CRIZ; Insulation Rating (kVrms): 5; Max Data Rate: 25Mbps; Prop Delay: 60ns; DatasheetVersion: Rev. A; PackageVersion: 10-12-2010-A, 02/2012; PackageReference: RI-16-1; PackageDescription: 16-Pin Standard Small Outline Package, with Increased Creepage, Body 12.8 x 7.5 mm, Pitch 1.27 mm; Supplier 1: Digi-Key; Supplier Part Number 1: ADUM6404CRIZ-ND; Max Operating Temp (degreesC): 105; Mounting Technology: Surface Mount; Code_JEDEC: MS-013-AC; ComponentLink1Description: Manufacturer URL; ComponentLink1URL: http://www.analog.com/en/index.html; ComponentLink2Description: Datasheet; ComponentLink2URL: http://www.analog.com/static/imported-files/data_sheets/ADuM6400_6401_6402_6403_6404.pdf; ComponentLink3Description: Package Specification; ComponentLink3URL: http://www.analog.com/static/imported-files/data_sheets/ADuM2400_2401_2402.pdf
footprint ADI-RI-16-1_N (SOIC, 16-Leads, Body 12.8x7.5mm, Pitch 1.27mm, IPC Medium Density)
footprint ADI-RI-16-1_L (SOIC, 16-Leads, Body 12.8x7.5mm, Pitch 1.27mm, IPC High Density)
footprint ADI-RI-16-1_M (SOIC, 16-Leads, Body 12.8x7.5mm, Pitch 1.27mm, IPC Low Density)
pins: 1 VDD1 (power) "Primary Supply Voltage, 3.0 V to 5.5 V. Pin 1 and Pin 7 must be connected to the same external voltage source.", 2 GND1 (power) "Ground Reference for the Primary Side of the Isolator. Pin 2 and Pin 8 are internally connected to each other, and it is recommended that both pins be connected to a common ground.", 3 VOA (hiz) "Logic Output A.", 4 VOB (hiz) "Logic Output B.", 5 VOC (hiz) "Logic Output C.", 6 VOD (hiz) "Logic Output D.", 7 VDDL (power) "Data Channel Supply Voltage, 3.0 V to 5.5 V. Pin 1 and Pin 7 must be connected to the same external voltage source.", 8 GND1 (power) "Ground Reference for the Primary Side of the Isolator. Pin 2 and Pin 8 are internally connected to each other, and it is recommended that both pins be connected to a common ground.", 9 GNDISO (power) "Ground Reference for the Secondary Side of the Isolator. Pin 9 and Pin 15 are internally connected to each other, and it is recommended that both pins be connected to a common ground.", 10 VSEL (in) "Output Voltage Selection. When VSEL = VISO, the VISO setpoint is 5.0 V. When VSEL = GNDISO, the VISO setpoint is 3.3 V.", 11 VID (in) "Logic Input D.", 12 VIC (in) "Logic Input C.", 13 VIB (in) "Logic Input B.", 14 VIA (in) "Logic Input A.", 15 GNDISO (power) "Ground Reference for the Secondary Side of the Isolator. Pin 9 and Pin 15 are internally connected to each other, and it is recommended that both pins be connected to a common ground.", 16 VISO (power) "Secondary Supply Voltage Output for External Loads: 3.3 V (VSEL = GNDISO) or 5.0 V (VSEL = VISO)."

## ADUM6404CRIZ-RL
designator U?
Quad Channel Isolator with Integrated DC / DC Converter, 5 KV rms Insulation Rating, 25 Mbps Data Rate, 60 ns Delay, Industrial, 16-pin SOIC (RI-16-1), Reel; Manufacturer: Analog Devices; PartNumber: ADUM6404CRIZ-RL; Insulation Rating (kVrms): 2.5; Max Data Rate: 25Mbps; Prop Delay: 60ns; DatasheetVersion: Rev. A; PackageVersion: 10-12-2010-A, 02/2012; PackageReference: RI-16-1; PackageDescription: 16-Pin Standard Small Outline Package, with Increased Creepage, Body 12.8 x 7.5 mm, Pitch 1.27 mm; Supplier 1: Digi-Key; Supplier Part Number 1: ADUM6404CRIZ-RL-ND; Max Operating Temp (degreesC): 105; Mounting Technology: Surface Mount; Code_JEDEC: MS-013-AC; ComponentLink1Description: Manufacturer URL; ComponentLink1URL: http://www.analog.com/en/index.html; ComponentLink2Description: Datasheet; ComponentLink2URL: http://www.analog.com/static/imported-files/data_sheets/ADuM6400_6401_6402_6403_6404.pdf; ComponentLink3Description: Package Specification; ComponentLink3URL: http://www.analog.com/static/imported-files/data_sheets/ADuM2400_2401_2402.pdf
footprint ADI-RI-16-1_N (SOIC, 16-Leads, Body 12.8x7.5mm, Pitch 1.27mm, IPC Medium Density)
footprint ADI-RI-16-1_L (SOIC, 16-Leads, Body 12.8x7.5mm, Pitch 1.27mm, IPC High Density)
footprint ADI-RI-16-1_M (SOIC, 16-Leads, Body 12.8x7.5mm, Pitch 1.27mm, IPC Low Density)
pins: 1 VDD1 (power) "Primary Supply Voltage, 3.0 V to 5.5 V. Pin 1 and Pin 7 must be connected to the same external voltage source.", 2 GND1 (power) "Ground Reference for the Primary Side of the Isolator. Pin 2 and Pin 8 are internally connected to each other, and it is recommended that both pins be connected to a common ground.", 3 VOA (hiz) "Logic Output A.", 4 VOB (hiz) "Logic Output B.", 5 VOC (hiz) "Logic Output C.", 6 VOD (hiz) "Logic Output D.", 7 VDDL (power) "Data Channel Supply Voltage, 3.0 V to 5.5 V. Pin 1 and Pin 7 must be connected to the same external voltage source.", 8 GND1 (power) "Ground Reference for the Primary Side of the Isolator. Pin 2 and Pin 8 are internally connected to each other, and it is recommended that both pins be connected to a common ground.", 9 GNDISO (power) "Ground Reference for the Secondary Side of the Isolator. Pin 9 and Pin 15 are internally connected to each other, and it is recommended that both pins be connected to a common ground.", 10 VSEL (in) "Output Voltage Selection. When VSEL = VISO, the VISO setpoint is 5.0 V. When VSEL = GNDISO, the VISO setpoint is 3.3 V.", 11 VID (in) "Logic Input D.", 12 VIC (in) "Logic Input C.", 13 VIB (in) "Logic Input B.", 14 VIA (in) "Logic Input A.", 15 GNDISO (power) "Ground Reference for the Secondary Side of the Isolator. Pin 9 and Pin 15 are internally connected to each other, and it is recommended that both pins be connected to a common ground.", 16 VISO (power) "Secondary Supply Voltage Output for External Loads: 3.3 V (VSEL = GNDISO) or 5.0 V (VSEL = VISO)."

## ADUM6404CRWZ
designator U?
Quad Channel Isolator with Integrated DC / DC Converter, 5 KV rms Insulation Rating, 25 Mbps Data Rate, 60 ns Delay, Industrial, 16-pin SOIC (RW-16), Tube; Manufacturer: Analog Devices; PartNumber: ADUM6404CRWZ; Insulation Rating (kVrms): 5; Max Data Rate: 25Mbps; Prop Delay: 60ns; DatasheetVersion: Rev. A; PackageVersion: 032707-B, 03/2007; PackageReference: RW-16; PackageDescription: 16-Pin Standard Small Outline Package, Body 10.3 x 7.5 mm, Pitch 1.27 mm; Supplier 1: Digi-Key; Supplier Part Number 1: ADUM6404CRWZ-ND; Max Operating Temp (degreesC): 105; Mounting Technology: Surface Mount; Code_JEDEC: MS-013-AA; ComponentLink1Description: Manufacturer URL; ComponentLink1URL: http://www.analog.com/en/index.html; ComponentLink2Description: Datasheet; ComponentLink2URL: http://www.analog.com/static/imported-files/data_sheets/ADuM6400_6401_6402_6403_6404.pdf; ComponentLink3Description: Package Specification; ComponentLink3URL: http://www.analog.com/static/imported-files/packages/PKG_PDF/SOIC_WIDE%20%28RW%29/RW_16.pdf
footprint ADI-RW-16_N (SOIC, 16-Leads, Body 10.3x7.5mm, Pitch 1.27mm, IPC Medium Density)
footprint ADI-RW-16_L (SOIC, 16-Leads, Body 10.3x7.5mm, Pitch 1.27mm, IPC High Density)
footprint ADI-RW-16_M (SOIC, 16-Leads, Body 10.3x7.5mm, Pitch 1.27mm, IPC Low Density)
pins: 1 VDD1 (power) "Primary Supply Voltage, 3.0 V to 5.5 V. Pin 1 and Pin 7 must be connected to the same external voltage source.", 2 GND1 (power) "Ground Reference for the Primary Side of the Isolator. Pin 2 and Pin 8 are internally connected to each other, and it is recommended that both pins be connected to a common ground.", 3 VOA (hiz) "Logic Output A.", 4 VOB (hiz) "Logic Output B.", 5 VOC (hiz) "Logic Output C.", 6 VOD (hiz) "Logic Output D.", 7 VDDL (power) "Data Channel Supply Voltage, 3.0 V to 5.5 V. Pin 1 and Pin 7 must be connected to the same external voltage source.", 8 GND1 (power) "Ground Reference for the Primary Side of the Isolator. Pin 2 and Pin 8 are internally connected to each other, and it is recommended that both pins be connected to a common ground.", 9 GNDISO (power) "Ground Reference for the Secondary Side of the Isolator. Pin 9 and Pin 15 are internally connected to each other, and it is recommended that both pins be connected to a common ground.", 10 VSEL (in) "Output Voltage Selection. When VSEL = VISO, the VISO setpoint is 5.0 V. When VSEL = GNDISO, the VISO setpoint is 3.3 V.", 11 VID (in) "Logic Input D.", 12 VIC (in) "Logic Input C.", 13 VIB (in) "Logic Input B.", 14 VIA (in) "Logic Input A.", 15 GNDISO (power) "Ground Reference for the Secondary Side of the Isolator. Pin 9 and Pin 15 are internally connected to each other, and it is recommended that both pins be connected to a common ground.", 16 VISO (power) "Secondary Supply Voltage Output for External Loads: 3.3 V (VSEL = GNDISO) or 5.0 V (VSEL = VISO)."

## ADUM6404CRWZ-RL
designator U?
Quad Channel Isolator with Integrated DC / DC Converter, 5 KV rms Insulation Rating, 25 Mbps Data Rate, 60 ns Delay, Industrial, 16-pin SOIC (RW-16), Reel; Manufacturer: Analog Devices; PartNumber: ADUM6404CRWZ-RL; Insulation Rating (kVrms): 5; Max Data Rate: 25Mbps; Prop Delay: 60ns; DatasheetVersion: Rev. A; PackageVersion: 032707-B, 03/2007; PackageReference: RW-16; PackageDescription: 16-Pin Standard Small Outline Package, Body 10.3 x 7.5 mm, Pitch 1.27 mm; Supplier 1: Digi-Key; Supplier Part Number 1: ADUM6404CRWZ-RL-ND; Max Operating Temp (degreesC): 105; Mounting Technology: Surface Mount; Code_JEDEC: MS-013-AA; ComponentLink1Description: Manufacturer URL; ComponentLink1URL: http://www.analog.com/en/index.html; ComponentLink2Description: Datasheet; ComponentLink2URL: http://www.analog.com/static/imported-files/data_sheets/ADuM6400_6401_6402_6403_6404.pdf; ComponentLink3Description: Package Specification; ComponentLink3URL: http://www.analog.com/static/imported-files/packages/PKG_PDF/SOIC_WIDE%20%28RW%29/RW_16.pdf
footprint ADI-RW-16_N (SOIC, 16-Leads, Body 10.3x7.5mm, Pitch 1.27mm, IPC Medium Density)
footprint ADI-RW-16_L (SOIC, 16-Leads, Body 10.3x7.5mm, Pitch 1.27mm, IPC High Density)
footprint ADI-RW-16_M (SOIC, 16-Leads, Body 10.3x7.5mm, Pitch 1.27mm, IPC Low Density)
pins: 1 VDD1 (power) "Primary Supply Voltage, 3.0 V to 5.5 V. Pin 1 and Pin 7 must be connected to the same external voltage source.", 2 GND1 (power) "Ground Reference for the Primary Side of the Isolator. Pin 2 and Pin 8 are internally connected to each other, and it is recommended that both pins be connected to a common ground.", 3 VOA (hiz) "Logic Output A.", 4 VOB (hiz) "Logic Output B.", 5 VOC (hiz) "Logic Output C.", 6 VOD (hiz) "Logic Output D.", 7 VDDL (power) "Data Channel Supply Voltage, 3.0 V to 5.5 V. Pin 1 and Pin 7 must be connected to the same external voltage source.", 8 GND1 (power) "Ground Reference for the Primary Side of the Isolator. Pin 2 and Pin 8 are internally connected to each other, and it is recommended that both pins be connected to a common ground.", 9 GNDISO (power) "Ground Reference for the Secondary Side of the Isolator. Pin 9 and Pin 15 are internally connected to each other, and it is recommended that both pins be connected to a common ground.", 10 VSEL (in) "Output Voltage Selection. When VSEL = VISO, the VISO setpoint is 5.0 V. When VSEL = GNDISO, the VISO setpoint is 3.3 V.", 11 VID (in) "Logic Input D.", 12 VIC (in) "Logic Input C.", 13 VIB (in) "Logic Input B.", 14 VIA (in) "Logic Input A.", 15 GNDISO (power) "Ground Reference for the Secondary Side of the Isolator. Pin 9 and Pin 15 are internally connected to each other, and it is recommended that both pins be connected to a common ground.", 16 VISO (power) "Secondary Supply Voltage Output for External Loads: 3.3 V (VSEL = GNDISO) or 5.0 V (VSEL = VISO)."